# Altium footprint library 2462.PcbLib: 1 footprints
Each footprint in its own frame and in the unit in brackets; x right, y up, seen from the top. Pads: shape width x height; smd on the part's side, far side on the other; paste and mask are expansions set on the pad; w line width, h text height; cw(c..) or ccw(c..) is an arc to the next point about the centre after c.
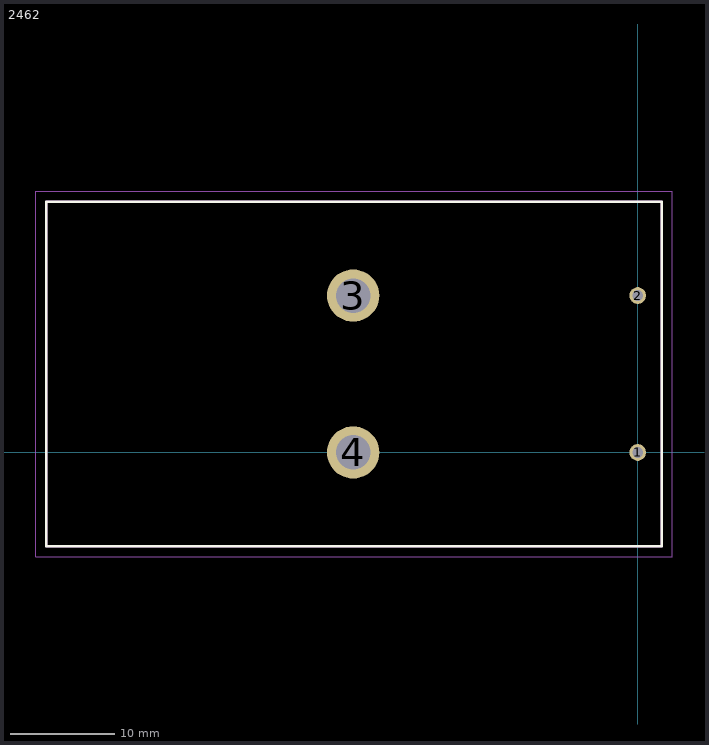
[diagram p0: the footprint, top view; thin cyan lines are the x and y axes]

## 2462 [mm]
pads (4):
  round 1.6 hole 1.02: 1(0,0) 2(0,14.99)
  round 5 hole 3.3: 3(-27.18,14.99) 4(-27.18,0)
Top Overlay:
  lines w0.2: -56.5,-8.965 -56.5,23.955 2.3,23.955 2.3,-8.965 -56.5,-8.965
Mechanical 15:
  lines w0.2: -56.5,-8.965 -56.5,23.955 2.3,23.955 2.3,-8.965 -56.5,-8.965
Mechanical 20:
  lines w0.1: -57.5,-9.965 -57.5,24.955 3.3,24.955 3.3,-9.965 -57.5,-9.965
3D body "2462.stp": height 5.46, standoff -23.53, extent -56.979,-10.575 2.115,22.225